# Altium footprint library Crystal.PcbLib: 185 footprints (part 10 of 12)
Each footprint in its own frame and in the unit in brackets; x right, y up, seen from the top. Pads: shape width x height; smd on the part's side, far side on the other; paste and mask are expansions set on the pad; w line width, h text height; cw(c..) or ccw(c..) is an arc to the next point about the centre after c.
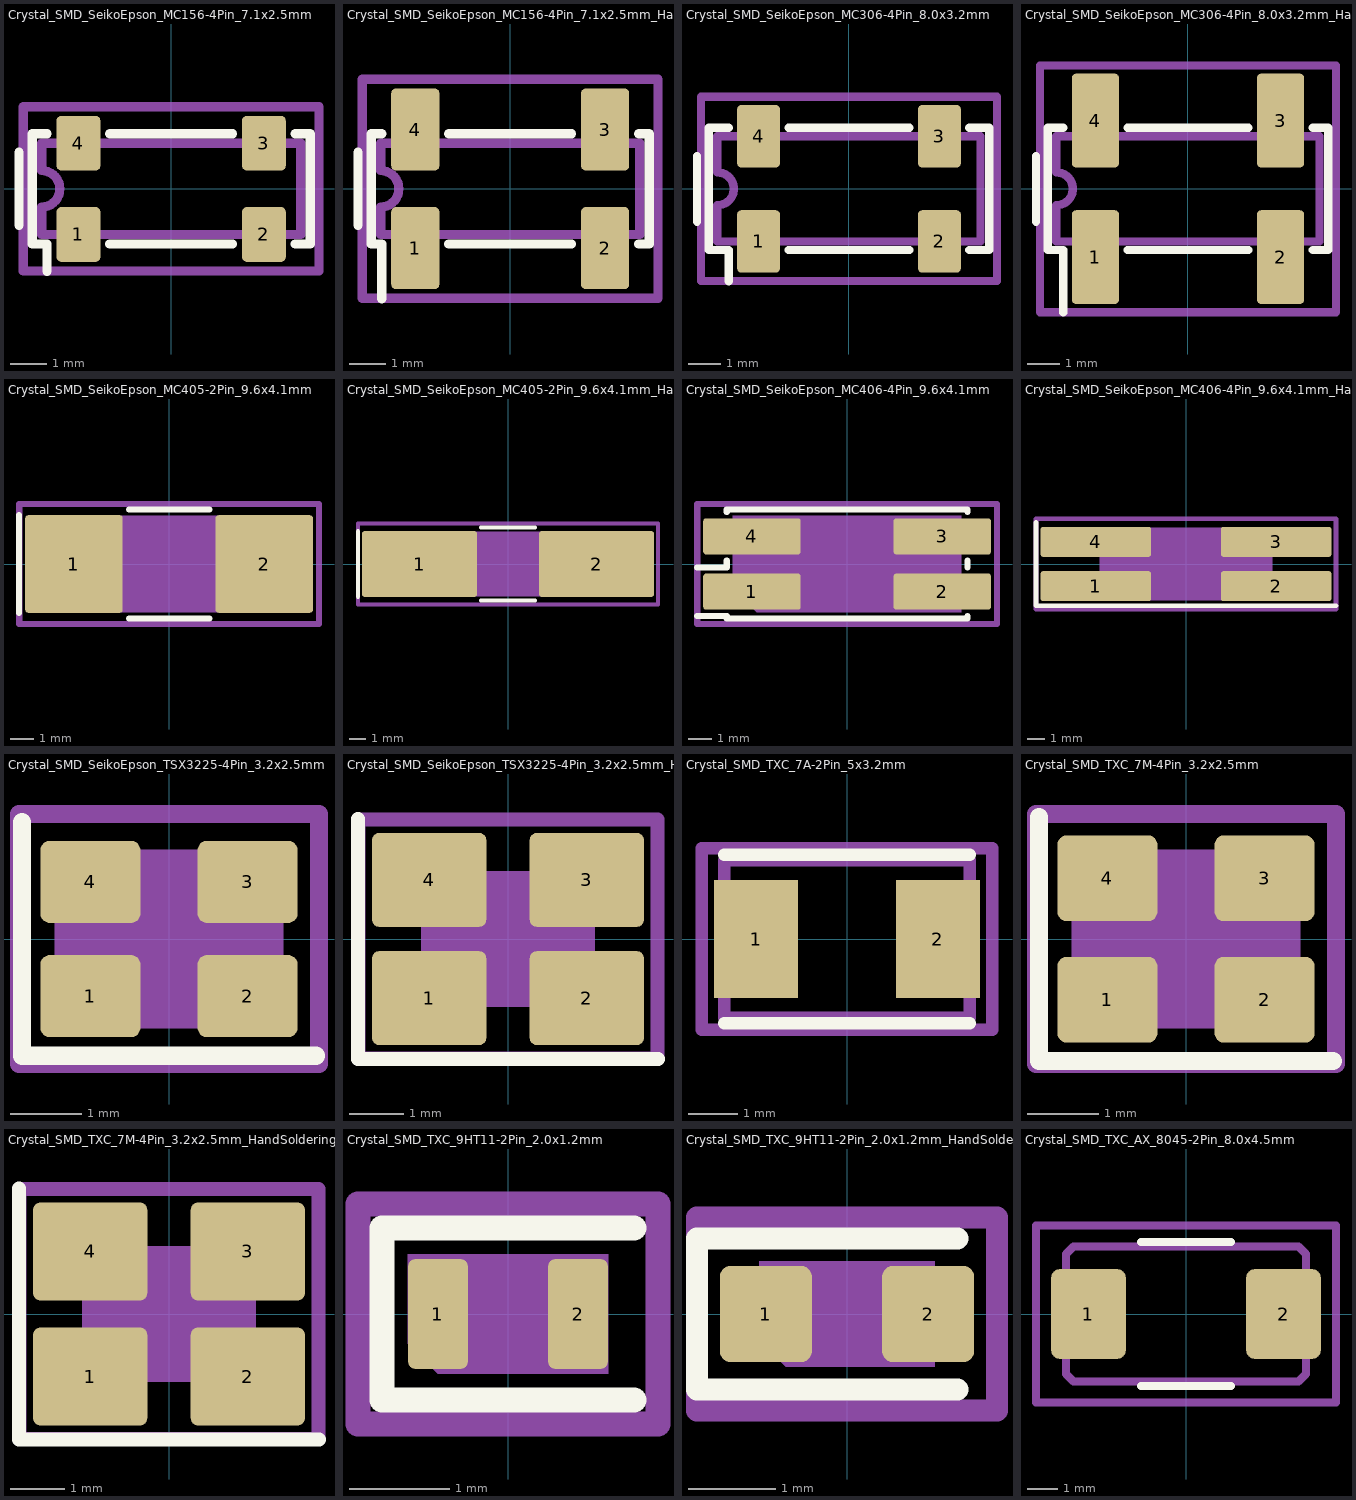
[diagram p9: the footprints below, top view; thin cyan lines are the x and y axes]

## Crystal_SMD_SeikoEpson_MC156-4Pin_7.1x2.5mm [mm]
pads (4):
  rrect21% 1.2x1.5 smd: 1(-2.54,-1.25) 2(2.54,-1.25) 3(2.54,1.25) 4(-2.54,1.25)
F.SilkS:
  lines w0.254: -4.17,-1 -4.17,1 ; -3.4,-2.26 -3.4,-1.51 -3.81,-1.51 -3.81,1.51 -3.4,1.51 ; -1.68,-1.51 1.68,-1.51 ; -1.68,1.51 1.68,1.51 ; 3.4,-1.51 3.81,-1.51 3.81,1.51 3.4,1.51
Top Assembly:
  lines w0.254: -3.55,-1.25 3.55,-1.25 3.55,1.25 -3.55,1.25 -3.55,0.5 cw(c-3.55,0) -3.55,-0.5 -3.55,-1.25
  text "'.Designator'" at -4.047,-0.84 h1
Top Courtyard:
  lines w0.254: -4.05,-2.25 4.05,-2.25 4.05,2.25 -4.05,2.25 -4.05,-2.25
Top Designator:
  text ".Designator" at -7.678,-0.513 h1.52

## Crystal_SMD_SeikoEpson_MC156-4Pin_7.1x2.5mm_HandSoldering [mm]
pads (4):
  rrect19% 1.32x2.25 smd: 1(-2.6,-1.625) 2(2.6,-1.625) 3(2.6,1.625) 4(-2.6,1.625)
F.SilkS:
  lines w0.254: -4.17,-1 -4.17,1 ; -3.52,-3.01 -3.52,-1.51 -3.81,-1.51 -3.81,1.51 -3.52,1.51 ; -1.68,-1.51 1.68,-1.51 ; -1.68,1.51 1.68,1.51 ; 3.52,-1.51 3.81,-1.51 3.81,1.51 3.52,1.51
Top Assembly:
  lines w0.254: -3.55,-1.25 3.55,-1.25 3.55,1.25 -3.55,1.25 -3.55,0.5 cw(c-3.55,0) -3.55,-0.5 -3.55,-1.25
  text "'.Designator'" at -4.047,-0.84 h1
Top Courtyard:
  lines w0.254: -4.05,-3 4.05,-3 4.05,3 -4.05,3 -4.05,-3
Top Designator:
  text ".Designator" at -7.678,-0.513 h1.52

## Crystal_SMD_SeikoEpson_MC306-4Pin_8.0x3.2mm [mm]
pads (4):
  rrect19% 1.3x1.9 smd: 1(-2.75,-1.6) 2(2.75,-1.6) 3(2.75,1.6) 4(-2.75,1.6)
F.SilkS:
  lines w0.254: -4.62,-1 -4.62,1 ; -3.66,-2.81 -3.66,-1.86 -4.26,-1.86 -4.26,1.86 -3.66,1.86 ; -1.84,-1.86 1.84,-1.86 ; -1.84,1.86 1.84,1.86 ; 3.66,-1.86 4.26,-1.86 4.26,1.86 3.66,1.86
Top Assembly:
  lines w0.254: -4,-1.6 4,-1.6 4,1.6 -4,1.6 -4,0.5 cw(c-4,0) -4,-0.5 -4,-1.6
  text "'.Designator'" at -4.047,-0.84 h1
Top Courtyard:
  lines w0.254: -4.5,-2.8 4.5,-2.8 4.5,2.8 -4.5,2.8 -4.5,-2.8
Top Designator:
  text ".Designator" at -7.678,-0.513 h1.52

## Crystal_SMD_SeikoEpson_MC306-4Pin_8.0x3.2mm_HandSoldering [mm]
pads (4):
  rrect17% 1.43x2.85 smd: 1(-2.815,-2.075) 2(2.815,-2.075) 3(2.815,2.075) 4(-2.815,2.075)
F.SilkS:
  lines w0.254: -4.62,-1 -4.62,1 ; -3.79,-3.76 -3.79,-1.86 -4.26,-1.86 -4.26,1.86 -3.79,1.86 ; -1.84,-1.86 1.84,-1.86 ; -1.84,1.86 1.84,1.86 ; 3.79,-1.86 4.26,-1.86 4.26,1.86 3.79,1.86
Top Assembly:
  lines w0.254: -4,-1.6 4,-1.6 4,1.6 -4,1.6 -4,0.5 cw(c-4,0) -4,-0.5 -4,-1.6
  text "'.Designator'" at -4.047,-0.84 h1
Top Courtyard:
  lines w0.254: -4.5,-3.75 4.5,-3.75 4.5,3.75 -4.5,3.75 -4.5,-3.75
Top Designator:
  text ".Designator" at -7.678,-0.513 h1.52

## Crystal_SMD_SeikoEpson_MC405-2Pin_9.6x4.1mm [mm]
pads (2):
  rrect6% 4.1x4.1 smd: 1(-4,0) 2(4,0)
F.SilkS:
  lines w0.254: -6.31,-2.05 -6.31,2.05 ; -1.69,-2.29 1.69,-2.29 ; -1.69,2.29 1.69,2.29
Top Assembly:
  region: 4.8,-2.03 -3.8,-2.03 -4.8,-1.03 -4.8,2.03 4.8,2.03
  text "'.Designator'" at -4.047,-0.84 h1
Top Courtyard:
  lines w0.254: -6.3,-2.53 6.3,-2.53 6.3,2.53 -6.3,2.53 -6.3,-2.53
Top Designator:
  text ".Designator" at -7.623,-0.508 h1.52

## Crystal_SMD_SeikoEpson_MC405-2Pin_9.6x4.1mm_HandSoldering [mm]
pads (2):
  rrect6% 7.175x4.1 smd: 1(-5.537,0) 2(5.537,0)
F.SilkS:
  lines w0.254: -9.385,-2.05 -9.385,2.05 ; -1.69,-2.29 1.69,-2.29 ; -1.69,2.29 1.69,2.29
Top Assembly:
  region: 4.8,-2.03 -3.8,-2.03 -4.8,-1.03 -4.8,2.03 4.8,2.03
  text "'.Designator'" at -4.047,-0.84 h1
Top Courtyard:
  lines w0.254: -9.38,-2.53 9.38,-2.53 9.38,2.53 -9.38,2.53 -9.38,-2.53
Top Designator:
  text ".Designator" at -7.62,-0.508 h1.52

## Crystal_SMD_SeikoEpson_MC406-4Pin_9.6x4.1mm [mm]
pads (4):
  rrect16% 4.1x1.52 smd: 1(-4,-1.16) 2(4,-1.16) 3(4,1.16) 4(-4,1.16)
F.SilkS:
  lines w0.254: -6.31,-2.18 -5.06,-2.18 -5.06,-2.29 5.06,-2.29 5.06,-2.18 ; -6.31,-0.14 -5.06,-0.14 -5.06,0.14 ; -5.06,2.18 -5.06,2.29 5.06,2.29 5.06,2.18 ; 5.06,-0.14 5.06,0.14
Top Assembly:
  region: 4.8,-2.03 -3.8,-2.03 -4.8,-1.03 -4.8,2.03 4.8,2.03
  text "'.Designator'" at -4.047,-0.84 h1
Top Courtyard:
  lines w0.254: -6.3,-2.53 6.3,-2.53 6.3,2.53 -6.3,2.53 -6.3,-2.53
Top Designator:
  text ".Designator" at -7.623,-0.508 h1.52

## Crystal_SMD_SeikoEpson_MC406-4Pin_9.6x4.1mm_HandSoldering [mm]
pads (4):
  rrect15% 6.15x1.672 smd: 1(-5.025,-1.236) 2(5.025,-1.236) 3(5.025,1.236) 4(-5.025,1.236)
F.SilkS:
  lines w0.254: -8.36,2.332 -8.36,-2.332 8.36,-2.332
Top Assembly:
  region: 4.8,-2.03 -3.8,-2.03 -4.8,-1.03 -4.8,2.03 4.8,2.03
  text "'.Designator'" at -4.047,-0.84 h1
Top Courtyard:
  lines w0.254: -8.36,-2.53 8.36,-2.53 8.36,2.53 -8.36,2.53 -8.36,-2.53
Top Designator:
  text ".Designator" at -7.618,-0.508 h1.52

## Crystal_SMD_SeikoEpson_TSX3225-4Pin_3.2x2.5mm [mm]
pads (4):
  rrect22% 1.4x1.15 smd: 1(-1.1,-0.8) 2(1.1,-0.8) 3(1.1,0.8) 4(-1.1,0.8)
F.SilkS:
  lines w0.254: -2.06,1.635 -2.06,-1.635 2.06,-1.635
Top Assembly:
  region: 1.6,-1.25 -0.975,-1.25 -1.6,-0.625 -1.6,1.25 1.6,1.25
  text "'.Designator'" at -3.237,-0.672 h0.8
Top Courtyard:
  lines w0.254: -2.1,-1.75 2.1,-1.75 2.1,1.75 -2.1,1.75 -2.1,-1.75
Top Designator:
  text ".Designator" at -7.738,-0.508 h1.52

## Crystal_SMD_SeikoEpson_TSX3225-4Pin_3.2x2.5mm_HandSoldering [mm]
pads (4):
  rrect14% 2.1x1.725 smd: 1(-1.45,-1.088) 2(1.45,-1.088) 3(1.45,1.088) 4(-1.45,1.088)
F.SilkS:
  lines w0.254: -2.76,2.21 -2.76,-2.21 2.76,-2.21
Top Assembly:
  region: 1.6,-1.25 -0.975,-1.25 -1.6,-0.625 -1.6,1.25 1.6,1.25
  text "'.Designator'" at -3.237,-0.672 h0.8
Top Courtyard:
  lines w0.254: -2.75,-2.2 2.75,-2.2 2.75,2.2 -2.75,2.2 -2.75,-2.2
Top Designator:
  text ".Designator" at -7.738,-0.508 h1.52

## Crystal_SMD_TXC_7A-2Pin_5x3.2mm [mm]
pads (2):
  rect 1.7x2.4 smd: 1(-1.85,0) 2(1.85,0)
F.SilkS:
  lines w0.254: -2.5,-1.71 2.5,-1.71 ; -2.5,1.71 2.5,1.71
Top Assembly:
  lines w0.254: -2.5,-1.6 2.5,-1.6 2.5,1.6 -2.5,1.6 -2.5,-1.6
  text "'.Designator'" at -4.047,1.66 h1
Top Courtyard:
  lines w0.254: -2.95,-1.85 2.95,-1.85 2.95,1.85 -2.95,1.85 -2.95,-1.85
Top Designator:
  text ".Designator" at -7.768,-0.068 h1.52

## Crystal_SMD_TXC_7M-4Pin_3.2x2.5mm [mm]
pads (4):
  rrect21% 1.4x1.2 smd: 1(-1.1,-0.85) 2(1.1,-0.85) 3(1.1,0.85) 4(-1.1,0.85)
F.SilkS:
  lines w0.254: -2.06,1.71 -2.06,-1.71 2.06,-1.71
Top Assembly:
  region: 1.6,-1.25 -0.975,-1.25 -1.6,-0.625 -1.6,1.25 1.6,1.25
  text "'.Designator'" at -3.237,-0.672 h0.8
Top Courtyard:
  lines w0.254: -2.1,-1.75 2.1,-1.75 2.1,1.75 -2.1,1.75 -2.1,-1.75
Top Designator:
  text ".Designator" at -7.738,-0.508 h1.52

## Crystal_SMD_TXC_7M-4Pin_3.2x2.5mm_HandSoldering [mm]
pads (4):
  rrect14% 2.1x1.8 smd: 1(-1.45,-1.15) 2(1.45,-1.15) 3(1.45,1.15) 4(-1.45,1.15)
F.SilkS:
  lines w0.254: -2.76,2.31 -2.76,-2.31 2.76,-2.31
Top Assembly:
  region: 1.6,-1.25 -0.975,-1.25 -1.6,-0.625 -1.6,1.25 1.6,1.25
  text "'.Designator'" at -3.237,-0.672 h0.8
Top Courtyard:
  lines w0.254: -2.75,-2.3 2.75,-2.3 2.75,2.3 -2.75,2.3 -2.75,-2.3
Top Designator:
  text ".Designator" at -7.738,-0.508 h1.52

## Crystal_SMD_TXC_9HT11-2Pin_2.0x1.2mm [mm]
pads (2):
  rrect25% 0.6x1.1 smd: 1(-0.7,0) 2(0.7,0)
F.SilkS:
  lines w0.254: 1.26,-0.86 -1.26,-0.86 -1.26,0.86 1.26,0.86
Top Assembly:
  region: 1,-0.6 -0.7,-0.6 -1,-0.3 -1,0.6 1,0.6
  text "'.Designator'" at -2.028,-0.425 h0.5
Top Courtyard:
  lines w0.254: -1.5,-1.1 1.5,-1.1 1.5,1.1 -1.5,1.1 -1.5,-1.1
Top Designator:
  text ".Designator" at -7.698,-0.508 h1.52
Top Glue Points (Mech27):
  circle w0.254: c0,0 r0.2

## Crystal_SMD_TXC_9HT11-2Pin_2.0x1.2mm_HandSoldering [mm]
pads (2):
  rrect24% 1.05x1.1 smd: 1(-0.925,0) 2(0.925,0)
F.SilkS:
  lines w0.254: 1.26,-0.86 -1.71,-0.86 -1.71,0.86 1.26,0.86
Top Assembly:
  region: 1,-0.6 -0.7,-0.6 -1,-0.3 -1,0.6 1,0.6
  text "'.Designator'" at -2.028,-0.425 h0.5
Top Courtyard:
  lines w0.254: -1.71,-1.1 1.71,-1.1 1.71,1.1 -1.71,1.1 -1.71,-1.1
Top Designator:
  text ".Designator" at -7.698,-0.508 h1.52
Top Glue Points (Mech27):
  circle w0.254: c0,0 r0.2

## Crystal_SMD_TXC_AX_8045-2Pin_8.0x4.5mm [mm]
pads (2):
  rrect25% 2.5x3 smd: 1(-3.25,0) 2(3.25,0)
F.SilkS:
  lines w0.254: -1.5,-2.4 1.5,-2.4 ; -1.5,2.4 1.5,2.4
Top Assembly:
  lines w0.254: -4,-2 -3.75,-2.25 3.75,-2.25 4,-2 4,2 3.75,2.25 -3.75,2.25 -4,2 -4,-2
  text "'.Designator'" at -4.047,-0.84 h1
Top Courtyard:
  lines w0.254: -5,-2.95 5,-2.95 5,2.95 -5,2.95 -5,-2.95
Top Designator:
  text ".Designator" at -7.618,-0.508 h1.52